# EAGLE library part ADSP-BF561SBBCZ-5A (library DSPs)
IC DSP CTRLR 32B 500MHZ 256CBGA Manufacturer's datasheet <https://www.analog.com/media/en/technical-documentation/data-sheets/ADSP-BF561.pdf>
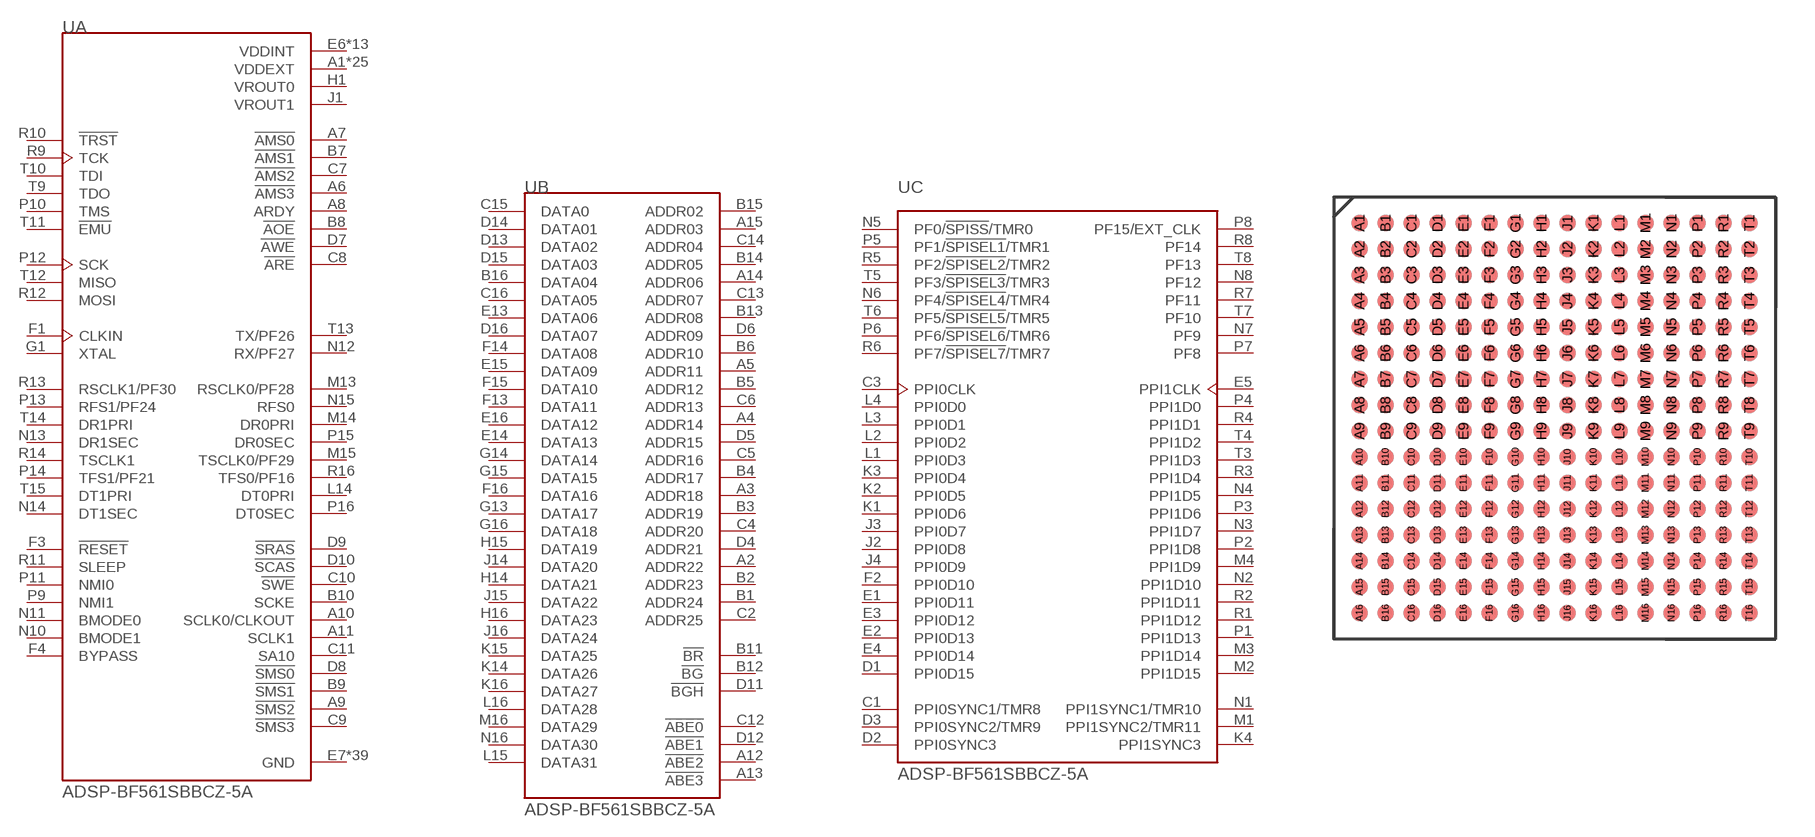
[diagram p3: symbol with the pads of BGA256; footprint BGA256]

Designator prefix U; gates A=ADSP-BF561SBBCZ-5A-1 B=ADSP-BF561SBBCZ-5A-2 C=ADSP-BF561SBBCZ-5A-3

## ADSP-BF561SBBCZ-5A (CREATED_BY: PCBLayout.com; DIGIKEY_PARTNO: ADSP-BF561SBBCZ-5A-ND; MANUFACTURER: Analog Devices Inc.; MPN: ADSP-BF561SBBCZ-5A; PACKAGE: CBGA-256)  [BGA256]
A1  A:VDDEXT  pwr
A2  B:ADDR22  out
A3  B:ADDR18  out
A4  B:ADDR14  out
A5  B:ADDR11  out
A6  A:!AMS3  out
A7  A:!AMS0  out
A8  A:ARDY  in
A9  A:!SMS2  out
A10  A:SCLK0/CLKOUT  out
A11  A:SCLK1  out
A12  B:!ABE2  out
A13  B:!ABE3  out
A14  B:ADDR06  out
A15  B:ADDR03  out
A16  A:VDDEXT  pwr
B1  B:ADDR24  out
B2  B:ADDR23  out
B3  B:ADDR19  out
B4  B:ADDR17  out
B5  B:ADDR12  out
B6  B:ADDR10  out
B7  A:!AMS1  out
B8  A:!AOE  out
B9  A:!SMS1  out
B10  A:SCKE  out
B11  B:!BR  in
B12  B:!BG  out
B13  B:ADDR08  out
B14  B:ADDR05  out
B15  B:ADDR02  out
B16  B:DATA04
C1  C:PPI0SYNC1/TMR8
C2  B:ADDR25  out
C3  C:PPI0CLK  in
C4  B:ADDR20  out
C5  B:ADDR16  out
C6  B:ADDR13  out
C7  A:!AMS2  out
C8  A:!ARE  out
C9  A:!SMS3  out
C10  A:!SWE  out
C11  A:SA10  out
C12  B:!ABE0  out
C13  B:ADDR07  out
C14  B:ADDR04  out
C15  B:DATA0
C16  B:DATA05
D1  C:PPI0D15
D2  C:PPI0SYNC3
D3  C:PPI0SYNC2/TMR9
D4  B:ADDR21  out
D5  B:ADDR15  out
D6  B:ADDR09  out
D7  A:!AWE  out
D8  A:!SMS0  out
D9  A:!SRAS  out
D10  A:!SCAS  out
D11  B:!BGH  out
D12  B:!ABE1  out
D13  B:DATA02
D14  B:DATA01
D15  B:DATA03
D16  B:DATA07
E1  C:PPI0D11
E2  C:PPI0D13
E3  C:PPI0D12
E4  C:PPI0D14
E5  C:PPI1CLK  in
E6  A:VDDINT  pwr
E7  A:GND  pwr
E8  A:VDDINT  pwr
E9  A:GND  pwr
E10  A:VDDINT  pwr
E11  A:GND  pwr
E12  A:VDDINT  pwr
E13  B:DATA06
E14  B:DATA13
E15  B:DATA09
E16  B:DATA12
F1  A:CLKIN  in
F2  C:PPI0D10
F3  A:!RESET  in
F4  A:BYPASS  in
F5  A:VDDEXT  pwr
F6  A:VDDEXT  pwr
F7  A:VDDEXT  pwr
F8  A:GND  pwr
F9  A:GND  pwr
F10  A:VDDEXT  pwr
F11  A:VDDEXT  pwr
F12  A:VDDEXT  pwr
F13  B:DATA11
F14  B:DATA08
F15  B:DATA10
F16  B:DATA16
G1  A:XTAL  out
G2  A:VDDEXT  pwr
G3  A:VDDEXT  pwr
G4  A:GND  pwr
G5  A:GND  pwr
G6  A:VDDEXT  pwr
G7  A:GND  pwr
G8  A:GND  pwr
G9  A:GND  pwr
G10  A:GND  pwr
G11  A:VDDEXT  pwr
G12  A:VDDEXT  pwr
G13  B:DATA17
G14  B:DATA14
G15  B:DATA15
G16  B:DATA18
H1  A:VROUT0  out
H2  A:GND  pwr
H3  A:GND  pwr
H4  A:VDDINT  pwr
H5  A:VDDINT  pwr
H6  A:GND  pwr
H7  A:GND  pwr
H8  A:GND  pwr
H9  A:GND  pwr
H10  A:GND  pwr
H11  A:GND  pwr
H12  A:GND  pwr
H13  A:GND  pwr
H14  B:DATA21
H15  B:DATA19
H16  B:DATA23
J1  A:VROUT1  out
J2  C:PPI0D8
J3  C:PPI0D7
J4  C:PPI0D9
J5  A:GND  pwr
J6  A:GND  pwr
J7  A:GND  pwr
J8  A:GND  pwr
J9  A:GND  pwr
J10  A:GND  pwr
J11  A:GND  pwr
J12  A:VDDINT  pwr
J13  A:VDDINT  pwr
J14  B:DATA20
J15  B:DATA22
J16  B:DATA24
K1  C:PPI0D6
K2  C:PPI0D5
K3  C:PPI0D4
K4  C:PPI1SYNC3
K5  A:VDDEXT  pwr
K6  A:VDDEXT  pwr
K7  A:GND  pwr
K8  A:GND  pwr
K9  A:GND  pwr
K10  A:GND  pwr
K11  A:VDDEXT  pwr
K12  A:GND  pwr
K13  A:GND  pwr
K14  B:DATA26
K15  B:DATA25
K16  B:DATA27
L1  C:PPI0D3
L2  C:PPI0D2
L3  C:PPI0D1
L4  C:PPI0D0
L5  A:VDDEXT  pwr
L6  A:VDDEXT  pwr
L7  A:VDDEXT  pwr
L8  A:VDDEXT  pwr
L9  A:GND  pwr
L10  A:VDDEXT  pwr
L11  A:VDDEXT  pwr
L12  A:VDDEXT  pwr
L14  A:DT0PRI
L15  B:DATA31
L16  B:DATA28
M1  C:PPI1SYNC2/TMR11
M2  C:PPI1D15
M3  C:PPI1D14
M4  C:PPI1D9
M5  A:VDDINT  pwr
M6  A:VDDINT  pwr
M7  A:GND  pwr
M8  A:VDDINT  pwr
M9  A:GND  pwr
M10  A:VDDINT  pwr
M11  A:GND  pwr
M12  A:VDDINT  pwr
M13  A:RSCLK0/PF28
M14  A:DR0PRI  in
M15  A:TSCLK0/PF29
M16  B:DATA29
N1  C:PPI1SYNC1/TMR10
N2  C:PPI1D10
N3  C:PPI1D7
N4  C:PPI1D5
N5  C:PF0/!SPISS!/TMR0
N6  C:PF4/!SPISEL4!/TMR4
N7  C:PF9
N8  C:PF12
N9  A:GND  pwr
N10  A:BMODE1  in
N11  A:BMODE0  in
N12  A:RX/PF27
N13  A:DR1SEC
N14  A:DT1SEC
N15  A:RFS0
N16  B:DATA30
P1  C:PPI1D13
P2  C:PPI1D8
P3  C:PPI1D6
P4  C:PPI1D0
P5  C:PF1/!SPISEL1!/TMR1
P6  C:PF6/!SPISEL6!/TMR6
P7  C:PF8
P8  C:PF15/EXT_CLK
P9  A:NMI1  in
P10  A:TMS  in
P11  A:NMI0  in
P12  A:SCK  out
P13  A:RFS1/PF24
P14  A:TFS1/PF21
P15  A:DR0SEC
P16  A:DT0SEC
R1  C:PPI1D12
R2  C:PPI1D11
R3  C:PPI1D4
R4  C:PPI1D1
R5  C:PF2/!SPISEL2!/TMR2
R6  C:PF7/!SPISEL7!/TMR7
R7  C:PF11
R8  C:PF14
R9  A:TCK  in
R10  A:!TRST  in
R11  A:SLEEP  out
R12  A:MOSI
R13  A:RSCLK1/PF30
R14  A:TSCLK1
R16  A:TFS0/PF16
T1  A:VDDEXT  pwr
T3  C:PPI1D3
T4  C:PPI1D2
T5  C:PF3/!SPISEL3!/TMR3
T6  C:PF5/!SPISEL5!/TMR5
T7  C:PF10
T8  C:PF13
T9  A:TDO  out
T10  A:TDI  in
T11  A:!EMU  out
T12  A:MISO
T13  A:TX/PF26
T14  A:DR1PRI  in
T15  A:DT1PRI
T16  A:VDDEXT  pwr

## Footprint BGA256 (pad centres in mm)
Ball Grid Array (BGA), 1.00 mm pitch, square; 256 pin, 17.00 mm L X 17.00 mm W X 1.91 mm H body PCB Libraries Packages
smd 0.6 x 0.6: A1 -7.5,7.5; A2 -7.5,6.5; A3 -7.5,5.5; A4 -7.5,4.5; A5 -7.5,3.5; A6 -7.5,2.5; A7 -7.5,1.5; A8 -7.5,0.5; A9 -7.5,-0.5; A10 -7.5,-1.5; A11 -7.5,-2.5; A12 -7.5,-3.5; A13 -7.5,-4.5; A14 -7.5,-5.5; A15 -7.5,-6.5; A16 -7.5,-7.5; B1 -6.5,7.5; B2 -6.5,6.5; B3 -6.5,5.5; B4 -6.5,4.5; B5 -6.5,3.5; B6 -6.5,2.5; B7 -6.5,1.5; B8 -6.5,0.5; B9 -6.5,-0.5; B10 -6.5,-1.5; B11 -6.5,-2.5; B12 -6.5,-3.5; B13 -6.5,-4.5; B14 -6.5,-5.5; B15 -6.5,-6.5; B16 -6.5,-7.5; C1 -5.5,7.5; C2 -5.5,6.5; C3 -5.5,5.5; C4 -5.5,4.5; C5 -5.5,3.5; C6 -5.5,2.5; C7 -5.5,1.5; C8 -5.5,0.5; C9 -5.5,-0.5; C10 -5.5,-1.5; C11 -5.5,-2.5; C12 -5.5,-3.5; C13 -5.5,-4.5; C14 -5.5,-5.5; C15 -5.5,-6.5; C16 -5.5,-7.5; D1 -4.5,7.5; D2 -4.5,6.5; D3 -4.5,5.5; D4 -4.5,4.5; D5 -4.5,3.5; D6 -4.5,2.5; D7 -4.5,1.5; D8 -4.5,0.5; D9 -4.5,-0.5; D10 -4.5,-1.5; D11 -4.5,-2.5; D12 -4.5,-3.5; D13 -4.5,-4.5; D14 -4.5,-5.5; D15 -4.5,-6.5; D16 -4.5,-7.5; E1 -3.5,7.5; E2 -3.5,6.5; E3 -3.5,5.5; E4 -3.5,4.5; E5 -3.5,3.5; E6 -3.5,2.5; E7 -3.5,1.5; E8 -3.5,0.5; E9 -3.5,-0.5; E10 -3.5,-1.5; E11 -3.5,-2.5; E12 -3.5,-3.5; E13 -3.5,-4.5; E14 -3.5,-5.5; E15 -3.5,-6.5; E16 -3.5,-7.5; F1 -2.5,7.5; F2 -2.5,6.5; F3 -2.5,5.5; F4 -2.5,4.5; F5 -2.5,3.5; F6 -2.5,2.5; F7 -2.5,1.5; F8 -2.5,0.5; F9 -2.5,-0.5; F10 -2.5,-1.5; F11 -2.5,-2.5; F12 -2.5,-3.5; F13 -2.5,-4.5; F14 -2.5,-5.5; F15 -2.5,-6.5; F16 -2.5,-7.5; G1 -1.5,7.5; G2 -1.5,6.5; G3 -1.5,5.5; G4 -1.5,4.5; G5 -1.5,3.5; G6 -1.5,2.5; G7 -1.5,1.5; G8 -1.5,0.5; G9 -1.5,-0.5; G10 -1.5,-1.5; G11 -1.5,-2.5; G12 -1.5,-3.5; G13 -1.5,-4.5; G14 -1.5,-5.5; G15 -1.5,-6.5; G16 -1.5,-7.5; H1 -0.5,7.5; H2 -0.5,6.5; H3 -0.5,5.5; H4 -0.5,4.5; H5 -0.5,3.5; H6 -0.5,2.5; H7 -0.5,1.5; H8 -0.5,0.5; H9 -0.5,-0.5; H10 -0.5,-1.5; H11 -0.5,-2.5; H12 -0.5,-3.5; H13 -0.5,-4.5; H14 -0.5,-5.5; H15 -0.5,-6.5; H16 -0.5,-7.5; J1 0.5,7.5; J2 0.5,6.5; J3 0.5,5.5; J4 0.5,4.5; J5 0.5,3.5; J6 0.5,2.5; J7 0.5,1.5; J8 0.5,0.5; J9 0.5,-0.5; J10 0.5,-1.5; J11 0.5,-2.5; J12 0.5,-3.5; J13 0.5,-4.5; J14 0.5,-5.5; J15 0.5,-6.5; J16 0.5,-7.5; K1 1.5,7.5; K2 1.5,6.5; K3 1.5,5.5; K4 1.5,4.5; K5 1.5,3.5; K6 1.5,2.5; K7 1.5,1.5; K8 1.5,0.5; K9 1.5,-0.5; K10 1.5,-1.5; K11 1.5,-2.5; K12 1.5,-3.5; K13 1.5,-4.5; K14 1.5,-5.5; K15 1.5,-6.5; K16 1.5,-7.5; L1 2.5,7.5; L2 2.5,6.5; L3 2.5,5.5; L4 2.5,4.5; L5 2.5,3.5; L6 2.5,2.5; L7 2.5,1.5; L8 2.5,0.5; L9 2.5,-0.5; L10 2.5,-1.5; L11 2.5,-2.5; L12 2.5,-3.5; L13 2.5,-4.5; L14 2.5,-5.5; L15 2.5,-6.5; L16 2.5,-7.5; M1 3.5,7.5; M2 3.5,6.5; M3 3.5,5.5; M4 3.5,4.5; M5 3.5,3.5; M6 3.5,2.5; M7 3.5,1.5; M8 3.5,0.5; M9 3.5,-0.5; M10 3.5,-1.5; M11 3.5,-2.5; M12 3.5,-3.5; M13 3.5,-4.5; M14 3.5,-5.5; M15 3.5,-6.5; M16 3.5,-7.5; N1 4.5,7.5; N2 4.5,6.5; N3 4.5,5.5; N4 4.5,4.5; N5 4.5,3.5; N6 4.5,2.5; N7 4.5,1.5; N8 4.5,0.5; N9 4.5,-0.5; N10 4.5,-1.5; N11 4.5,-2.5; N12 4.5,-3.5; N13 4.5,-4.5; N14 4.5,-5.5; N15 4.5,-6.5; N16 4.5,-7.5; P1 5.5,7.5; P2 5.5,6.5; P3 5.5,5.5; P4 5.5,4.5; P5 5.5,3.5; P6 5.5,2.5; P7 5.5,1.5; P8 5.5,0.5; P9 5.5,-0.5; P10 5.5,-1.5; P11 5.5,-2.5; P12 5.5,-3.5; P13 5.5,-4.5; P14 5.5,-5.5; P15 5.5,-6.5; P16 5.5,-7.5; R1 6.5,7.5; R2 6.5,6.5; R3 6.5,5.5; R4 6.5,4.5; R5 6.5,3.5; R6 6.5,2.5; R7 6.5,1.5; R8 6.5,0.5; R9 6.5,-0.5; R10 6.5,-1.5; R11 6.5,-2.5; R12 6.5,-3.5; R13 6.5,-4.5; R14 6.5,-5.5; R15 6.5,-6.5; R16 6.5,-7.5; T1 7.5,7.5; T2 7.5,6.5; T3 7.5,5.5; T4 7.5,4.5; T5 7.5,3.5; T6 7.5,2.5; T7 7.5,1.5; T8 7.5,0.5; T9 7.5,-0.5; T10 7.5,-1.5; T11 7.5,-2.5; T12 7.5,-3.5; T13 7.5,-4.5; T14 7.5,-5.5; T15 7.5,-6.5; T16 7.5,-7.5